# Altium schematic symbol library Schlib1.SchLib: 25 symbols
Pins are listed as number, name and electrical type; pins without a type are passive.

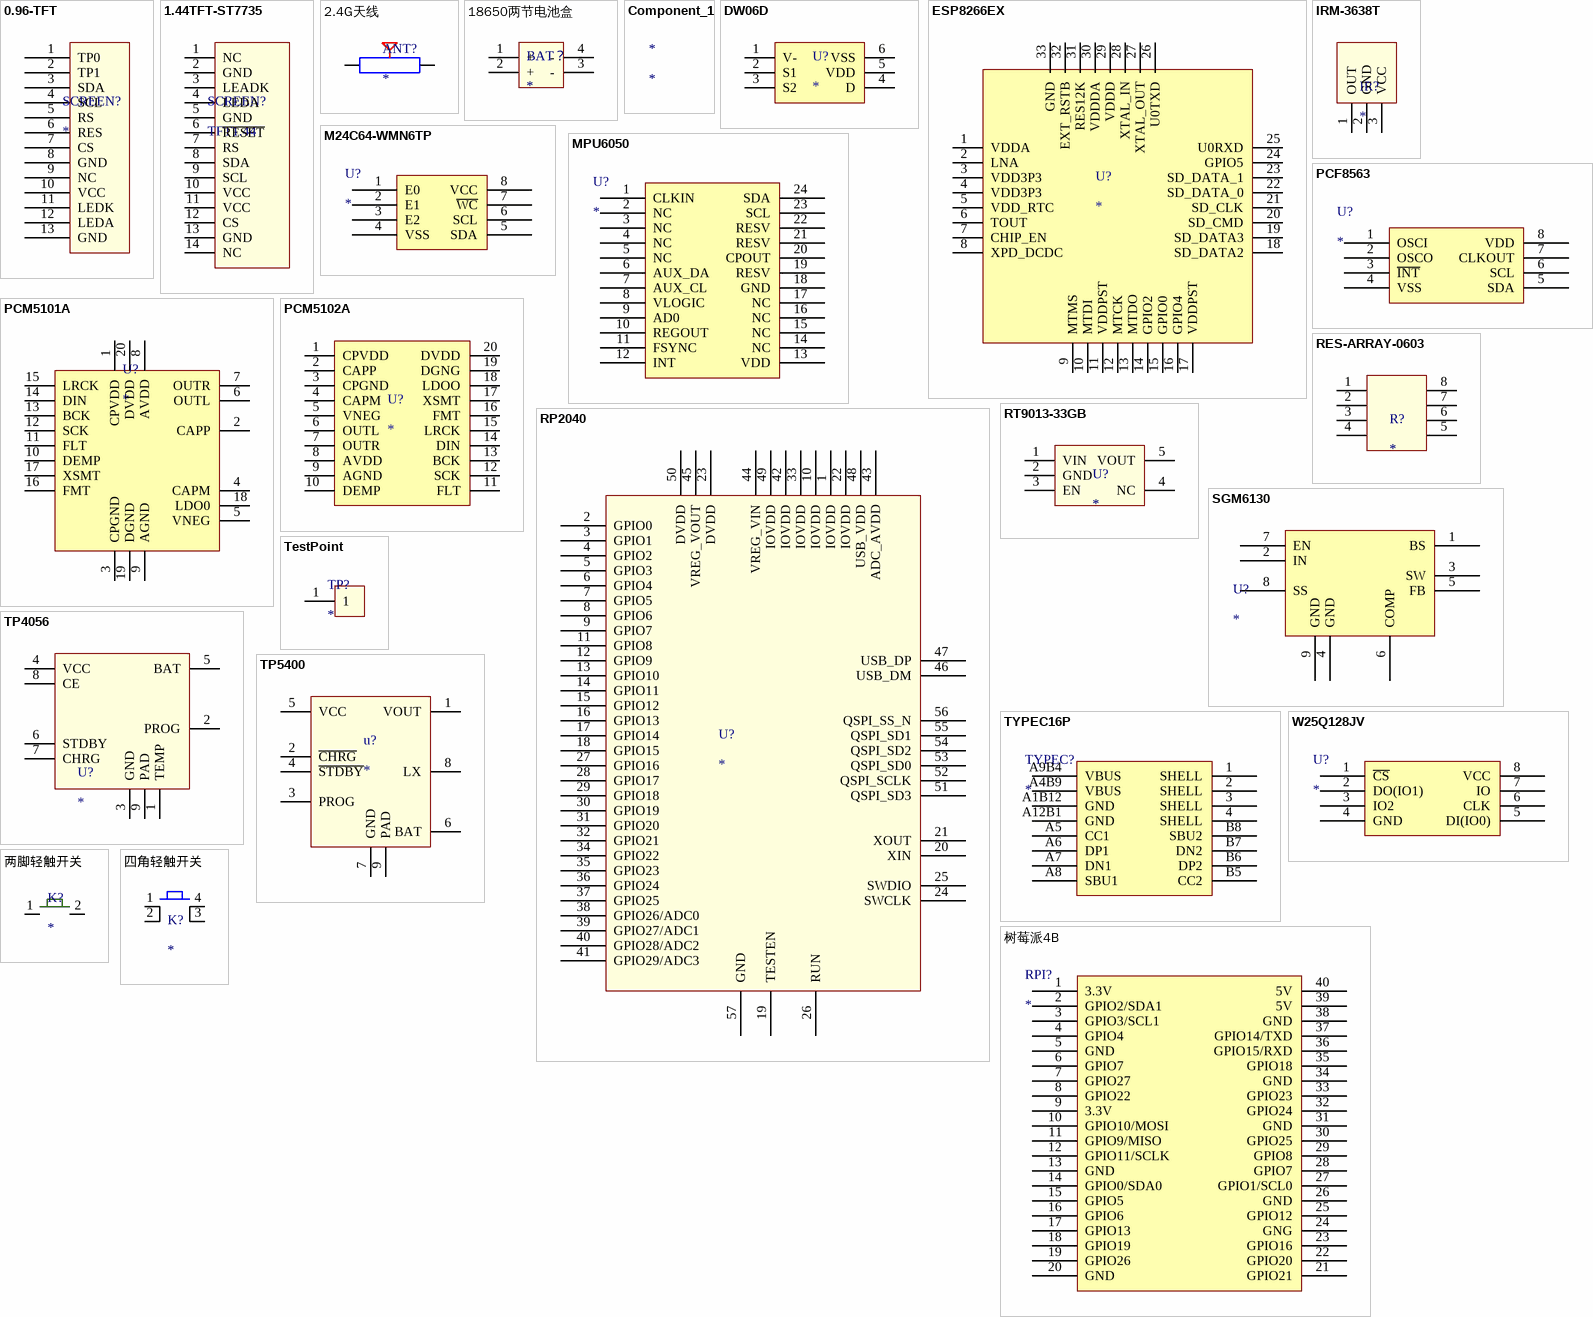
[diagram p0: symbols 0.96-TFT to 树莓派4B]

## 0.96-TFT
designator SCREEN?
footprint 0.96-TFT
pins: 1 TP0, 2 TP1, 3 SDA, 4 SCL, 5 RS, 6 RES, 7 CS, 8 GND, 9 NC, 10 VCC, 11 LEDK, 12 LEDA, 13 GND

## 1.44TFT-ST7735
designator SCREEN?, comment TFT1.44
footprint TFT1.44-ST7735
pins: 1 NC, 2 GND, 3 LEADK, 4 LEDA, 5 GND, 6 ~{RESET}, 7 RS, 8 SDA, 9 SCL, 10 VCC, 11 VCC, 12 CS, 13 GND, 14 NC

## 2.4G天线
designator ANT?
footprint ANT-SMD_L9.5-W2.1
pins: 1 0, 2 1

## 18650两节电池盒
designator BAT？
footprint 18650两节电池盒
pins: 1 +, 2 +, 3 -, 4 -

## Component_1
designator *

## DW06D
designator U?
footprint SOT23-6
pins: 1 V-, 2 S1, 3 S2, 4 D, 5 VDD, 6 VSS

## ESP8266EX
designator U?
pins: 1 VDDA, 2 LNA, 3 VDD3P3, 4 VDD3P3, 5 VDD_RTC, 6 TOUT, 7 CHIP_EN, 8 XPD_DCDC, 9 MTMS, 10 MTDI, 11 VDDPST, 12 MTCK, 13 MTDO, 14 GPIO2, 15 GPIO0, 16 GPIO4, 17 VDDPST, 18 SD_DATA2, 19 SD_DATA3, 20 SD_CMD, 21 SD_CLK, 22 SD_DATA_0, 23 SD_DATA_1, 24 GPIO5, 25 U0RXD, 26 U0TXD, 27 XTAL_OUT, 28 XTAL_IN, 29 VDDD, 30 VDDDA, 31 RES12K, 32 EXT_RSTB, 33 GND

## IRM-3638T
designator IR?
footprint IRM-3638T
pins: 1 OUT, 2 GND, 3 VCC

## M24C64-WMN6TP
designator U?
footprint SOP8
pins: 1 E0, 2 E1, 3 E2, 4 VSS, 5 SDA, 6 SCL, 7 ~{WC}, 8 VCC

## MPU6050
designator U?
footprint QFN24 4x4
pins: 1 CLKIN, 2 NC, 3 NC, 4 NC, 5 NC, 6 AUX_DA, 7 AUX_CL, 8 VLOGIC, 9 AD0, 10 REGOUT, 11 FSYNC, 12 INT, 13 VDD, 14 NC, 15 NC, 16 NC, 17 NC, 18 GND, 19 RESV, 20 CPOUT, 21 RESV, 22 RESV, 23 SCL, 24 SDA

## PCF8563
designator U?
footprint SOP127P600X175-8N (SOP, 8-Leads, Body 4.90x3.90mm, Pitch 1.27mm, IPC Medium Density)
pins: 1 OSCI, 2 OSCO, 3 ~{INT}, 4 VSS, 5 SDA, 6 SCL, 7 CLKOUT, 8 VDD

## PCM5101A
designator U?
footprint TSSOP20
pins: 1 CPVDD, 2 CAPP, 3 CPGND, 4 CAPM, 5 VNEG, 6 OUTL, 7 OUTR, 8 AVDD, 9 AGND, 10 DEMP, 11 FLT, 12 SCK, 13 BCK, 14 DIN, 15 LRCK, 16 FMT, 17 XSMT, 18 LDO0, 19 DGND, 20 DVDD

## PCM5102A
designator U?
footprint TSSOP20
pins: 1 CPVDD, 2 CAPP, 3 CPGND, 4 CAPM, 5 VNEG, 6 OUTL, 7 OUTR, 8 AVDD, 9 AGND, 10 DEMP, 11 FLT, 12 SCK, 13 BCK, 14 DIN, 15 LRCK, 16 FMT, 17 XSMT, 18 LDOO, 19 DGNG, 20 DVDD

## RES-ARRAY-0603
designator R?
footprint RES-ARRAY-0603
pins: 1 29, 2 30, 3 31, 4 32, 5 33, 6 34, 7 35, 8 36

## RP2040
designator U?
footprint QFN-56 (RP2040)
pins: 1 IOVDD, 2 GPIO0, 3 GPIO1, 4 GPIO2, 5 GPIO3, 6 GPIO4, 7 GPIO5, 8 GPIO6, 9 GPIO7, 10 IOVDD, 11 GPIO8, 12 GPIO9, 13 GPIO10, 14 GPIO11, 15 GPIO12, 16 GPIO13, 17 GPIO14, 18 GPIO15, 19 TESTEN, 20 XIN, 21 XOUT, 22 IOVDD, 23 DVDD, 24 SWCLK, 25 SWDIO, 26 RUN, 27 GPIO16, 28 GPIO17, 29 GPIO18, 30 GPIO19, 31 GPIO20, 32 GPIO21, 33 IOVDD, 34 GPIO22, 35 GPIO23, 36 GPIO24, 37 GPIO25, 38 GPIO26/ADC0, 39 GPIO27/ADC1, 40 GPIO28/ADC2, 41 GPIO29/ADC3, 42 IOVDD, 43 ADC_AVDD, 44 VREG_VIN, 45 VREG_VOUT, 46 USB_DM, 47 USB_DP, 48 USB_VDD, 49 IOVDD, 50 DVDD, 51 QSPI_SD3, 52 QSPI_SCLK, 53 QSPI_SD0, 54 QSPI_SD2, 55 QSPI_SD1, 56 QSPI_SS_N, 57 GND

## RT9013-33GB
designator U?
footprint SOT23-5
pins: 1 VIN, 2 GND, 3 EN, 4 NC, 5 VOUT

## SGM6130
designator U?
0.8V-25V DC-DC芯片
footprint SOIC127P600X170-8N (SOIC, 8-Leads, Body 4.90x3.90mm, Pitch 1.27mm, IPC Medium Density)
pins: 1 BS, 2 IN, 3 SW, 4 GND, 5 FB, 6 COMP, 7 EN, 8 SS, 9 GND

## TestPoint
designator TP?
footprint TEST_POINT
pins: 1

## TP4056
designator U?
footprint ESOP8
pins: 1 TEMP, 2 PROG, 3 GND, 4 VCC, 5 BAT, 6 STDBY, 7 CHRG, 8 CE, 9 PAD

## TP5400
designator u?
footprint ESOP8
pins: 1 VOUT, 2 ~{CHRG}, 3 PROG, 4 ~{STDBY}, 5 VCC, 6 BAT, 7 GND, 8 LX, 9 PAD

## TYPEC16P
designator TYPEC?
footprint TYPEC-16P
pins: 1 SHELL, 2 SHELL, 3 SHELL, 4 SHELL, A1B12 GND, A4B9 VBUS, A5 CC1, A6 DP1, A7 DN1, A8 SBU1, A9B4 VBUS, A12B1 GND, B5 CC2, B6 DP2, B7 DN2, B8 SBU2

## W25Q128JV
designator U?
footprint SOIC-8-208mil (SOIC, 8-Leads, Body 5.28x5.28mm, Pitch 1.27mm, IPC Medium Density)
pins: 1 ~{CS}, 2 DO(IO1), 3 IO2, 4 GND (power), 5 DI(IO0), 6 CLK, 7 IO, 8 VCC (power)

## 两脚轻触开关
designator K?
footprint 轻触按键 (TS-1088)
pins: 1, 2

## 四角轻触开关
designator K?
footprint 四角贴片开关
pins: 1 2, 2 3, 3 4, 4 5

## 树莓派4B
designator RPI?
footprint 树莓派4B
pins: 1 3.3V, 2 GPIO2/SDA1, 3 GPIO3/SCL1, 4 GPIO4, 5 GND, 6 GPIO7, 7 GPIO27, 8 GPIO22, 9 3.3V, 10 GPIO10/MOSI, 11 GPIO9/MISO, 12 GPIO11/SCLK, 13 GND, 14 GPIO0/SDA0, 15 GPIO5, 16 GPIO6, 17 GPIO13, 18 GPIO19, 19 GPIO26, 20 GND, 21 GPIO21, 22 GPIO20, 23 GPIO16, 24 GNG, 25 GPIO12, 26 GND, 27 GPIO1/SCL0, 28 GPIO7, 29 GPIO8, 30 GPIO25, 31 GND, 32 GPIO24, 33 GPIO23, 34 GND, 35 GPIO18, 36 GPIO15/RXD, 37 GPIO14/TXD, 38 GND, 39 5V, 40 5V